# Altium footprint library 40xx.PCBLIB: 22 footprints (part 1 of 2)
Each footprint in its own frame and in the unit in brackets; x right, y up, seen from the top. Pads: shape width x height; smd on the part's side, far side on the other; paste and mask are expansions set on the pad; w line width, h text height; cw(c..) or ccw(c..) is an arc to the next point about the centre after c.
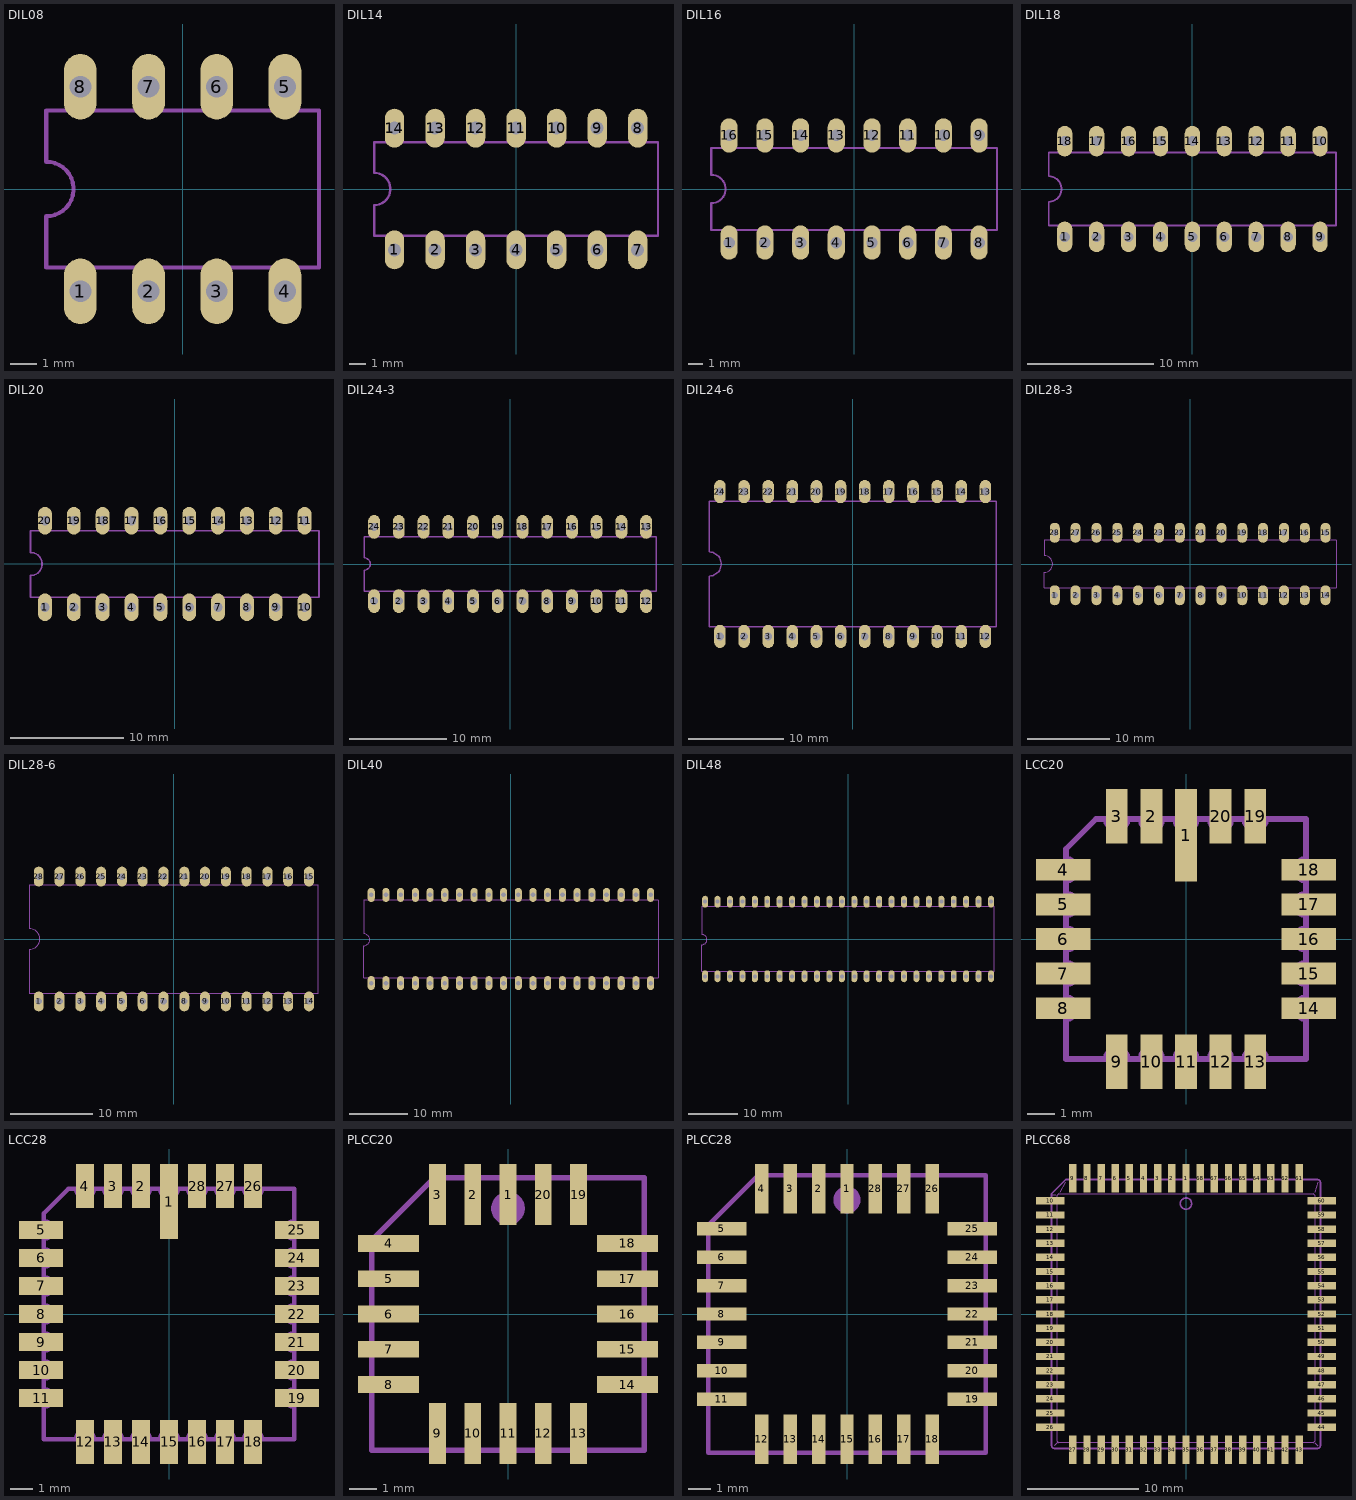
[diagram p0: the footprints below, top view; thin cyan lines are the x and y axes]

## DIL08 [mil]
pads (8):
  oval 48x96 hole 32: 1(-150,-150) 2(-50,-150) 3(50,-150) 4(150,-150) 5(150,150) 6(50,150) 7(-50,150) 8(-150,150)
Mechanical 2:
  lines w6: -200,-115 200,-115 200,115 -200,115 -200,40 cw(c-200,0) -200,-40 -200,-115

## DIL14 [mil]
pads (14):
  oval 48x96 hole 32: 1(-300,-150) 2(-200,-150) 3(-100,-150) 4(0,-150) 5(100,-150) 6(200,-150) 7(300,-150) 8(300,150) 9(200,150) 10(100,150) 11(0,150) 12(-100,150) 13(-200,150) 14(-300,150)
Mechanical 2:
  lines w6: -350,-115 350,-115 350,115 -350,115 -350,40 cw(c-350,0) -350,-40 -350,-115

## DIL16 [mil]
pads (16):
  oval 48x96 hole 32: 1(-350,-150) 2(-250,-150) 3(-150,-150) 4(-50,-150) 5(50,-150) 6(150,-150) 7(250,-150) 8(350,-150) 9(350,150) 10(250,150) 11(150,150) 12(50,150) 13(-50,150) 14(-150,150) 15(-250,150) 16(-350,150)
Mechanical 2:
  lines w6: -400,-115 400,-115 400,115 -400,115 -400,40 cw(c-400,0) -400,-40 -400,-115

## DIL18 [mil]
pads (18):
  oval 48x96 hole 32: 1(-400,-150) 2(-300,-150) 3(-200,-150) 4(-100,-150) 5(0,-150) 6(100,-150) 7(200,-150) 8(300,-150) 9(400,-150) 10(400,150) 11(300,150) 12(200,150) 13(100,150) 14(0,150) 15(-100,150) 16(-200,150) 17(-300,150) 18(-400,150)
Mechanical 2:
  lines w6: -450,-115 450,-115 450,115 -450,115 -450,40 cw(c-450,0) -450,-40 -450,-115

## DIL20 [mil]
pads (20):
  oval 48x96 hole 32: 1(-450,-150) 2(-350,-150) 3(-250,-150) 4(-150,-150) 5(-50,-150) 6(50,-150) 7(150,-150) 8(250,-150) 9(350,-150) 10(450,-150) 11(450,150) 12(350,150) 13(250,150) 14(150,150) 15(50,150) 16(-50,150) 17(-150,150) 18(-250,150) 19(-350,150) 20(-450,150)
Mechanical 2:
  lines w6: -500,-115 500,-115 500,115 -500,115 -500,40 cw(c-500,0) -500,-40 -500,-115

## DIL24-3 [mil]
pads (24):
  oval 48x96 hole 32: 1(-550,-150) 2(-450,-150) 3(-350,-150) 4(-250,-150) 5(-150,-150) 6(-50,-150) 7(50,-150) 8(150,-150) 9(250,-150) 10(350,-150) 11(450,-150) 12(550,-150) 13(550,150) 14(450,150) 15(350,150) 16(250,150) 17(150,150) 18(50,150) 19(-50,150) 20(-150,150) 21(-250,150) 22(-350,150) 23(-450,150) 24(-550,150)
Mechanical 2:
  lines w6: -590,-110 -590,-25 ccw(c-590,0) -590,25 -590,110 590,110 590,-110 -590,-110

## DIL24-6 [mil]
pads (24):
  oval 48x96 hole 32: 1(-550,-300) 2(-450,-300) 3(-350,-300) 4(-250,-300) 5(-150,-300) 6(-50,-300) 7(50,-300) 8(150,-300) 9(250,-300) 10(350,-300) 11(450,-300) 12(550,-300) 13(550,300) 14(450,300) 15(350,300) 16(250,300) 17(150,300) 18(50,300) 19(-50,300) 20(-150,300) 21(-250,300) 22(-350,300) 23(-450,300) 24(-550,300)
Mechanical 2:
  lines w6: -595,-260 -595,-50 ccw(c-595,0) -595,50 -595,260 595,260 595,-260 -595,-260

## DIL28-3 [mil]
pads (28):
  oval 48x96 hole 32: 1(-650,-150) 2(-550,-150) 3(-450,-150) 4(-350,-150) 5(-250,-150) 6(-150,-150) 7(-50,-150) 8(50,-150) 9(150,-150) 10(250,-150) 11(350,-150) 12(450,-150) 13(550,-150) 14(650,-150) 15(650,150) 16(550,150) 17(450,150) 18(350,150) 19(250,150) 20(150,150) 21(50,150) 22(-50,150) 23(-150,150) 24(-250,150) 25(-350,150) 26(-450,150) 27(-550,150) 28(-650,150)
Mechanical 2:
  lines w6: -700,-115 700,-115 700,115 -700,115 -700,40 cw(c-700,0) -700,-40 -700,-115

## DIL28-6 [mil]
pads (28):
  oval 48x96 hole 32: 1(-650,-300) 2(-550,-300) 3(-450,-300) 4(-350,-300) 5(-250,-300) 6(-150,-300) 7(-50,-300) 8(50,-300) 9(150,-300) 10(250,-300) 11(350,-300) 12(450,-300) 13(550,-300) 14(650,-300) 15(650,300) 16(550,300) 17(450,300) 18(350,300) 19(250,300) 20(150,300) 21(50,300) 22(-50,300) 23(-150,300) 24(-250,300) 25(-350,300) 26(-450,300) 27(-550,300) 28(-650,300)
Mechanical 2:
  lines w6: -695,-260 -695,-50 ccw(c-695,0) -695,50 -695,260 695,260 695,-260 -695,-260

## DIL40 [mil]
pads (40):
  oval 48x96 hole 32: 1(-950,-300) 2(-850,-300) 3(-750,-300) 4(-650,-300) 5(-550,-300) 6(-450,-300) 7(-350,-300) 8(-250,-300) 9(-150,-300) 10(-50,-300) 11(50,-300) 12(150,-300) 13(250,-300) 14(350,-300) 15(450,-300) 16(550,-300) 17(650,-300) 18(750,-300) 19(850,-300) 20(950,-300) 21(950,300) 22(850,300) 23(750,300) 24(650,300) 25(550,300) 26(450,300) 27(350,300) 28(250,300) 29(150,300) 30(50,300) 31(-50,300) 32(-150,300) 33(-250,300) 34(-350,300) 35(-450,300) 36(-550,300) 37(-650,300) 38(-750,300) 39(-850,300) 40(-950,300)
Mechanical 2:
  lines w6: -1000,-265 1000,-265 1000,265 -1000,265 -1000,35 cw(c-1000,-5) -1000,-45 -1000,-265

## DIL48 [mil]
pads (48):
  oval 48x96 hole 32: 1(-1150,-300) 2(-1050,-300) 3(-950,-300) 4(-850,-300) 5(-750,-300) 6(-650,-300) 7(-550,-300) 8(-450,-300) 9(-350,-300) 10(-250,-300) 11(-150,-300) 12(-50,-300) 13(50,-300) 14(150,-300) 15(250,-300) 16(350,-300) 17(450,-300) 18(550,-300) 19(650,-300) 20(750,-300) 21(850,-300) 22(950,-300) 23(1050,-300) 24(1150,-300) 25(1150,300) 26(1050,300) 27(950,300) 28(850,300) 29(750,300) 30(650,300) 31(550,300) 32(450,300) 33(350,300) 34(250,300) 35(150,300) 36(50,300) 37(-50,300) 38(-150,300) 39(-250,300) 40(-350,300) 41(-450,300) 42(-550,300) 43(-650,300) 44(-750,300) 45(-850,300) 46(-950,300) 47(-1050,300) 48(-1150,300)
Mechanical 2:
  lines w6: -1175,-260 1175,-260 1175,260 -1175,260 -1175,35 cw(c-1175,-5) -1175,-45 -1175,-260

## LCC20 [mil]
pads (20):
  rect 31.5x133.86 smd: 1(0,149.61)
  rect 31.5x78.74 smd: 2(-50,177.17) 3(-100,177.17) 9(-100,-177.17) 10(-50,-177.17) 11(0,-177.17) 12(50,-177.17) 13(100,-177.17) 19(100,177.17) 20(50,177.17)
  rect 78.74x31.5 smd: 4(-177.17,100) 5(-177.17,50) 6(-177.17,0) 7(-177.17,-50) 8(-177.17,-100) 14(177.17,-100) 15(177.17,-50) 16(177.17,0) 17(177.17,50) 18(177.17,100)
Mechanical 18:
  lines w8: -173.23,-173.62 -173.23,-173.23 ; -173.23,-115.75 -173.23,-173.23 ; -173.23,-84.25 -173.23,-65.75 ; -173.23,-34.25 -173.23,-15.75 ; -173.23,15.75 -173.23,34.25 ; -173.23,65.75 -173.23,84.25 ; -173.23,115.75 -173.23,129.92 -129.92,173.23 -115.75,173.23 ; -173.17,-115.75 ccw(c-173.17,-100) -173.17,-84.25 ; -173.17,-65.75 ccw(c-173.17,-50) -173.17,-34.25 ; -173.17,-15.75 ccw(c-173.17,0) -173.17,15.75 ; -173.17,34.25 ccw(c-173.17,50) -173.17,65.75 ; -173.17,84.25 ccw(c-173.17,100) -173.17,115.75 ; -115.75,-173.23 -173.23,-173.23 ; -115.75,-173.17 cw(c-100,-173.17) -84.25,-173.17 ; -115.75,173.17 ccw(c-100,173.17) -84.25,173.17 ; -84.25,-173.23 -65.75,-173.23 ; -84.25,173.23 -65.75,173.23 ; -65.75,-173.17 cw(c-50,-173.17) -34.25,-173.17 ; -65.75,173.17 ccw(c-50,173.17) -34.25,173.17 ; -34.25,-173.23 -15.75,-173.23 ; -34.25,173.23 -15.75,173.23 ; -15.75,-173.17 cw(c0,-173.17) 15.75,-173.17 ; -15.75,173.17 ccw(c0,173.17) 15.75,173.17 ; 15.75,-173.23 34.25,-173.23 ; 15.75,173.23 34.25,173.23 ; 34.25,-173.17 cw(c50,-173.17) 65.75,-173.17 ; 34.25,173.17 ccw(c50,173.17) 65.75,173.17 ; 65.75,-173.23 84.25,-173.23 ; 65.75,173.23 84.25,173.23 ; 84.25,-173.17 cw(c100,-173.17) 115.75,-173.17 ; 84.25,173.17 ccw(c100,173.17) 115.75,173.17 ; 115.75,-173.23 173.23,-173.23 173.23,-115.75 ; 115.75,173.23 173.23,173.23 173.23,115.75 ; 173.17,-115.75 cw(c173.17,-100) 173.17,-84.25 ; 173.17,-65.75 cw(c173.17,-50) 173.17,-34.25 ; 173.17,-15.75 cw(c173.17,0) 173.17,15.75 ; 173.17,34.25 cw(c173.17,50) 173.17,65.75 ; 173.17,84.25 cw(c173.17,100) 173.17,115.75 ; 173.23,-84.25 173.23,-65.75 ; 173.23,-34.25 173.23,-15.75 ; 173.23,15.75 173.23,34.25 ; 173.23,65.75 173.23,84.25

## LCC28 [mil]
pads (28):
  rect 31.5x133.86 smd: 1(0,200.79)
  rect 31.5x78.74 smd: 2(-50,228.35) 3(-100,228.35) 4(-150,228.35) 12(-150,-228.35) 13(-100,-228.35) 14(-50,-228.35) 15(0,-228.35) 16(50,-228.35) 17(100,-228.35) 18(150,-228.35) 26(150,228.35) 27(100,228.35) 28(50,228.35)
  rect 78.74x31.5 smd: 5(-228.35,150) 6(-228.35,100) 7(-228.35,50) 8(-228.35,0) 9(-228.35,-50) 10(-228.35,-100) 11(-228.35,-150) 19(228.35,-150) 20(228.35,-100) 21(228.35,-50) 22(228.35,0) 23(228.35,50) 24(228.35,100) 25(228.35,150)
Mechanical 18:
  lines w8: -223.23,-165.75 -223.23,-223.23 ; -223.23,-134.25 -223.23,-115.75 ; -223.23,-84.25 -223.23,-65.75 ; -223.23,-34.25 -223.23,-15.75 ; -223.23,15.75 -223.23,34.25 ; -223.23,65.75 -223.23,84.25 ; -223.23,115.75 -223.23,134.25 ; -223.23,165.75 -223.23,179.92 -179.92,223.23 -165.75,223.23 ; -223.17,-165.75 ccw(c-223.17,-150) -223.17,-134.25 ; -223.17,-115.75 ccw(c-223.17,-100) -223.17,-84.25 ; -223.17,-65.75 ccw(c-223.17,-50) -223.17,-34.25 ; -223.17,-15.75 ccw(c-223.17,0) -223.17,15.75 ; -223.17,34.25 ccw(c-223.17,50) -223.17,65.75 ; -223.17,84.25 ccw(c-223.17,100) -223.17,115.75 ; -223.17,134.25 ccw(c-223.17,150) -223.17,165.75 ; -165.75,-223.23 -223.23,-223.23 ; -165.75,-223.17 cw(c-150,-223.17) -134.25,-223.17 ; -165.75,223.17 ccw(c-150,223.17) -134.25,223.17 ; -134.25,-223.23 -115.75,-223.23 ; -134.25,223.23 -115.75,223.23 ; -123.23,-223.62 -223.23,-223.23 ; -115.75,-223.17 cw(c-100,-223.17) -84.25,-223.17 ; -115.75,223.17 ccw(c-100,223.17) -84.25,223.17 ; -84.25,-223.23 -65.75,-223.23 ; -84.25,223.23 -65.75,223.23 ; -65.75,-223.17 cw(c-50,-223.17) -34.25,-223.17 ; -65.75,223.17 ccw(c-50,223.17) -34.25,223.17 ; -34.25,-223.23 -15.75,-223.23 ; -34.25,223.23 -15.75,223.23 ; -15.75,-223.17 cw(c0,-223.17) 15.75,-223.17 ; -15.75,223.17 ccw(c0,223.17) 15.75,223.17 ; 15.75,-223.23 34.25,-223.23 ; 15.75,223.23 34.25,223.23 ; 34.25,-223.17 cw(c50,-223.17) 65.75,-223.17 ; 34.25,223.17 ccw(c50,223.17) 65.75,223.17 ; 65.75,-223.23 84.25,-223.23 ; 65.75,223.23 84.25,223.23 ; 84.25,-223.17 cw(c100,-223.17) 115.75,-223.17 ; 84.25,223.17 ccw(c100,223.17) 115.75,223.17 ; 115.75,-223.23 134.25,-223.23 ; 115.75,223.23 134.25,223.23 ; 134.25,-223.17 cw(c150,-223.17) 165.75,-223.17 ; 134.25,223.17 ccw(c150,223.17) 165.75,223.17 ; 165.75,-223.23 223.23,-223.23 223.23,-165.75 ; 165.75,223.23 223.23,223.23 223.23,165.75 ; 223.17,-165.75 cw(c223.17,-150) 223.17,-134.25 ; 223.17,-115.75 cw(c223.17,-100) 223.17,-84.25 ; 223.17,-65.75 cw(c223.17,-50) 223.17,-34.25 ; 223.17,-15.75 cw(c223.17,0) 223.17,15.75 ; 223.17,34.25 cw(c223.17,50) 223.17,65.75 ; 223.17,84.25 cw(c223.17,100) 223.17,115.75 ; 223.17,134.25 cw(c223.17,150) 223.17,165.75 ; 223.23,-134.25 223.23,-115.75 ; 223.23,-84.25 223.23,-65.75 ; 223.23,-34.25 223.23,-15.75 ; 223.23,15.75 223.23,34.25 ; 223.23,65.75 223.23,84.25 ; 223.23,115.75 223.23,134.25

## PLCC20 [mil]
pads (20):
  rect 23.61x86.61 smd: 1(0,169.29) 2(-50,169.29) 3(-100,169.29) 9(-100,-169.29) 10(-50,-169.29) 11(0,-169.29) 12(50,-169.29) 13(100,-169.29) 19(100,169.29) 20(50,169.29)
  rect 86.61x23.61 smd: 4(-169.29,100) 5(-169.29,50) 6(-169.29,0) 7(-169.29,-50) 8(-169.29,-100) 14(169.29,-100) 15(169.29,-50) 16(169.29,0) 17(169.29,50) 18(169.29,100)
Mechanical 18:
  circle w24: c0,149.61 r11.81
  rectangle: -10.24,194.88 10.24,212.6
  rectangle: -60.24,194.88 -39.76,212.6
  rectangle: -110.24,194.88 -89.76,212.6
  rectangle: -212.6,89.76 -194.88,110.24
  rectangle: -212.6,39.76 -194.88,60.24
  rectangle: -212.6,-10.24 -194.88,10.24
  rectangle: -212.6,-60.24 -194.88,-39.76
  rectangle: -212.6,-110.24 -194.88,-89.76
  rectangle: -110.24,-212.6 -89.76,-194.88
  rectangle: -60.24,-212.6 -39.76,-194.88
  rectangle: -10.24,-212.6 10.24,-194.88
  rectangle: 39.76,-212.6 60.24,-194.88
  rectangle: 89.76,-212.6 110.24,-194.88
  rectangle: 194.88,-110.24 212.6,-89.76
  rectangle: 194.88,-60.24 212.6,-39.76
  rectangle: 194.88,-10.24 212.6,10.24
  rectangle: 194.88,39.76 212.6,60.24
  rectangle: 194.88,89.76 212.6,110.24
  rectangle: 89.76,194.88 110.24,212.6
  rectangle: 39.76,194.88 60.24,212.6
  lines w8: -192.91,-192.91 -192.91,104.92 -104.92,192.91 192.91,192.91 192.91,-192.91 -192.91,-192.91

## PLCC28 [mil]
pads (28):
  rect 23.61x86.61 smd: 1(0,220.47) 2(-50,220.47) 3(-100,220.47) 4(-150,220.47) 12(-150,-220.47) 13(-100,-220.47) 14(-50,-220.47) 15(0,-220.47) 16(50,-220.47) 17(100,-220.47) 18(150,-220.47) 26(150,220.47) 27(100,220.47) 28(50,220.47)
  rect 86.61x23.61 smd: 5(-220.47,150) 6(-220.47,100) 7(-220.47,50) 8(-220.47,0) 9(-220.47,-50) 10(-220.47,-100) 11(-220.47,-150) 19(220.47,-150) 20(220.47,-100) 21(220.47,-50) 22(220.47,0) 23(220.47,50) 24(220.47,100) 25(220.47,150)
Mechanical 18:
  circle w24: c0,200.79 r11.81
  rectangle: -10.24,246.06 10.24,263.78
  rectangle: -60.24,246.06 -39.76,263.78
  rectangle: -110.24,246.06 -89.76,263.78
  rectangle: -160.24,246.06 -139.76,263.78
  rectangle: -263.78,139.76 -246.06,160.24
  rectangle: -263.78,89.76 -246.06,110.24
  rectangle: -263.78,39.76 -246.06,60.24
  rectangle: -263.78,-10.24 -246.06,10.24
  rectangle: -263.78,-60.24 -246.06,-39.76
  rectangle: -263.78,-110.24 -246.06,-89.76
  rectangle: -263.78,-160.24 -246.06,-139.76
  rectangle: -160.24,-263.78 -139.76,-246.06
  rectangle: -110.24,-263.78 -89.76,-246.06
  rectangle: -60.24,-263.78 -39.76,-246.06
  rectangle: -10.24,-263.78 10.24,-246.06
  rectangle: 39.76,-263.78 60.24,-246.06
  rectangle: 89.76,-263.78 110.24,-246.06
  rectangle: 139.76,-263.78 160.24,-246.06
  rectangle: 246.06,-160.24 263.78,-139.76
  rectangle: 246.06,-110.24 263.78,-89.76
  rectangle: 246.06,-60.24 263.78,-39.76
  rectangle: 246.06,-10.24 263.78,10.24
  rectangle: 246.06,39.76 263.78,60.24
  rectangle: 246.06,89.76 263.78,110.24
  rectangle: 246.06,139.76 263.78,160.24
  rectangle: 139.76,246.06 160.24,263.78
  rectangle: 89.76,246.06 110.24,263.78
  rectangle: 39.76,246.06 60.24,263.78
  lines w8: -244.09,-244.09 -244.09,156.1 -156.1,244.09 244.09,244.09 244.09,-244.09 -244.09,-244.09

## PLCC68 [mil]
pads (68):
  rect 26x100 smd: 1(0,480) 2(-50,480) 3(-100,480) 4(-150,480) 5(-200,480) 6(-250,480) 7(-300,480) 8(-350,480) 9(-400,480) 27(-400,-480) 28(-350,-480) 29(-300,-480) 30(-250,-480) 31(-200,-480) 32(-150,-480) 33(-100,-480) 34(-50,-480) 35(0,-480) 36(50,-480) 37(100,-480) 38(150,-480) 39(200,-480) 40(250,-480) 41(300,-480) 42(350,-480) 43(400,-480) 61(400,480) 62(350,480) 63(300,480) 64(250,480) 65(200,480) 66(150,480) 67(100,480) 68(50,480)
  rect 100x26 smd: 10(-480,400) 11(-480,350) 12(-480,300) 13(-480,250) 14(-480,200) 15(-480,150) 16(-480,100) 17(-480,50) 18(-480,0) 19(-480,-50) 20(-480,-100) 21(-480,-150) 22(-480,-200) 23(-480,-250) 24(-480,-300) 25(-480,-350) 26(-480,-400) 44(480,-400) 45(480,-350) 46(480,-300) 47(480,-250) 48(480,-200) 49(480,-150) 50(480,-100) 51(480,-50) 52(480,0) 53(480,50) 54(480,100) 55(480,150) 56(480,200) 57(480,250) 58(480,300) 59(480,350) 60(480,400)
Mechanical 2:
  circle w6: c0,390 r20
  lines w6: -475,-417 -475,-465 ccw(c-465,-465) -465,-475 -417,-475 ; -475,-383 -475,-367 ; -475,-333 -475,-317 ; -475,-283 -475,-267 ; -475,-233 -475,-217 ; -475,-183 -475,-167 ; -475,-133 -475,-117 ; -475,-83 -475,-67 ; -475,-33 -475,-17 ; -475,17 -475,33 ; -475,67 -475,83 ; -475,117 -475,133 ; -475,167 -475,183 ; -475,217 -475,233 ; -475,267 -475,283 ; -475,317 -475,333 ; -475,367 -475,383 ; -475,417 -475,425 -425,475 -417,475 ; -383,-475 -367,-475 ; -383,475 -367,475 ; -333,-475 -317,-475 ; -333,475 -317,475 ; -283,-475 -267,-475 ; -283,475 -267,475 ; -233,-475 -217,-475 ; -233,475 -217,475 ; -183,-475 -167,-475 ; -183,475 -167,475 ; -133,-475 -117,-475 ; -133,475 -117,475 ; -83,-475 -67,-475 ; -83,475 -67,475 ; -33,-475 -17,-475 ; -33,475 -17,475 ; 17,-475 33,-475 ; 17,475 33,475 ; 67,-475 83,-475 ; 67,475 83,475 ; 117,-475 133,-475 ; 117,475 133,475 ; 167,-475 183,-475 ; 167,475 183,475 ; 217,-475 233,-475 ; 217,475 233,475 ; 267,-475 283,-475 ; 267,475 283,475 ; 317,-475 333,-475 ; 317,475 333,475 ; 367,-475 383,-475 ; 367,475 383,475 ; 417,-475 465,-475 ccw(c465,-465) 475,-465 475,-417 ; 417,475 465,475 cw(c465,465) 475,465 475,417 ; 475,-383 475,-367 ; 475,-333 475,-317 ; 475,-283 475,-267 ; 475,-233 475,-217 ; 475,-183 475,-167 ; 475,-133 475,-117 ; 475,-83 475,-67 ; 475,-33 475,-17 ; 475,17 475,33 ; 475,67 475,83 ; 475,117 475,133 ; 475,167 475,183 ; 475,217 475,233 ; 475,267 475,283 ; 475,317 475,333 ; 475,367 475,383
Mechanical 18:
  rectangle: 475,-60 500,-40
  rectangle: 475,-10 500,10
  rectangle: 475,-410 500,-390
  rectangle: 475,-360 500,-340
  rectangle: 475,-210 500,-190
  rectangle: 475,-160 500,-140
  rectangle: 475,-110 500,-90
  rectangle: 475,-310 500,-290
  rectangle: 475,-260 500,-240
  rectangle: 475,40 500,60
  rectangle: 475,90 500,110
  rectangle: 475,140 500,160
  rectangle: 475,190 500,210
  rectangle: 475,240 500,260
  rectangle: 475,290 500,310
  rectangle: 475,340 500,360
  rectangle: 475,390 500,410
  rectangle: -60,-500 -40,-475
  rectangle: -10,-500 10,-475
  rectangle: -410,-500 -390,-475
  rectangle: -360,-500 -340,-475
  rectangle: -210,-500 -190,-475
  rectangle: -160,-500 -140,-475
  rectangle: -110,-500 -90,-475
  rectangle: -310,-500 -290,-475
  rectangle: -260,-500 -240,-475
  rectangle: 40,-500 60,-475
  rectangle: 90,-500 110,-475
  rectangle: 140,-500 160,-475
  rectangle: 190,-500 210,-475
  rectangle: 240,-500 260,-475
  rectangle: 290,-500 310,-475
  rectangle: 340,-500 360,-475
  rectangle: 390,-500 410,-475
  rectangle: -500,40 -475,60
  rectangle: -500,-10 -475,10
  rectangle: -500,390 -475,410
  rectangle: -500,340 -475,360
  rectangle: -500,190 -475,210
  rectangle: -500,140 -475,160
  rectangle: -500,90 -475,110
  rectangle: -500,290 -475,310
  rectangle: -500,240 -475,260
  rectangle: -500,-60 -475,-40
  rectangle: -500,-110 -475,-90
  rectangle: -500,-160 -475,-140
  rectangle: -500,-210 -475,-190
  rectangle: -500,-260 -475,-240
  rectangle: -500,-310 -475,-290
  rectangle: -500,-360 -475,-340
  rectangle: -500,-410 -475,-390
  rectangle: 40,475 60,500
  rectangle: -10,475 10,500
  rectangle: 390,475 410,500
  rectangle: 340,475 360,500
  rectangle: 190,475 210,500
  rectangle: 140,475 160,500
  rectangle: 90,475 110,500
  rectangle: 290,475 310,500
  rectangle: 240,475 260,500
  rectangle: -60,475 -40,500
  rectangle: -110,475 -90,500
  rectangle: -160,475 -140,500
  rectangle: -210,475 -190,500
  rectangle: -260,475 -240,500
  rectangle: -310,475 -290,500
  rectangle: -360,475 -340,500
  rectangle: -410,475 -390,500
  lines w2: -470,420 -460,420 ; -465,-465 -455,-455 ; -445,430 -425,465 ; 455,-455 465,-465 ; 455,430 465,465 ; -455,-450 -450,-455 450,-455 455,-450 455,420 450,425 -450,425 -455,420 -455,-450
  lines w6: -475,-415 -475,-385 ; -475,-365 -475,-335 ; -475,-315 -475,-285 ; -475,-265 -475,-235 ; -475,-215 -475,-185 ; -475,-165 -475,-135 ; -475,-115 -475,-85 ; -475,-65 -475,-35 ; -475,-15 -475,15 ; -475,35 -475,65 ; -475,85 -475,115 ; -475,135 -475,165 ; -475,185 -475,215 ; -475,235 -475,265 ; -475,285 -475,315 ; -475,335 -475,365 ; -475,385 -475,415 ; -415,-475 -385,-475 ; -415,475 -385,475 ; -365,-475 -335,-475 ; -365,475 -335,475 ; -315,-475 -285,-475 ; -315,475 -285,475 ; -265,-475 -235,-475 ; -265,475 -235,475 ; -215,-475 -185,-475 ; -215,475 -185,475 ; -165,-475 -135,-475 ; -165,475 -135,475 ; -115,-475 -85,-475 ; -115,475 -85,475 ; -65,-475 -35,-475 ; -65,475 -35,475 ; -15,-475 15,-475 ; -15,475 15,475 ; 35,-475 65,-475 ; 35,475 65,475 ; 85,-475 115,-475 ; 85,475 115,475 ; 135,-475 165,-475 ; 135,475 165,475 ; 185,-475 215,-475 ; 185,475 215,475 ; 235,-475 265,-475 ; 235,475 265,475 ; 285,-475 315,-475 ; 285,475 315,475 ; 335,-475 365,-475 ; 335,475 365,475 ; 385,-475 415,-475 ; 385,475 415,475 ; 475,-415 475,-385 ; 475,-365 475,-335 ; 475,-315 475,-285 ; 475,-265 475,-235 ; 475,-215 475,-185 ; 475,-165 475,-135 ; 475,-115 475,-85 ; 475,-65 475,-35 ; 475,-15 475,15 ; 475,35 475,65 ; 475,85 475,115 ; 475,135 475,165 ; 475,185 475,215 ; 475,235 475,265 ; 475,285 475,315 ; 475,335 475,365 ; 475,385 475,415